# Altium footprint library Parts.PcbLib: 53 footprints (part 3 of 4)
Each footprint in its own frame and in the unit in brackets; x right, y up, seen from the top. Pads: shape width x height; smd on the part's side, far side on the other; paste and mask are expansions set on the pad; w line width, h text height; cw(c..) or ccw(c..) is an arc to the next point about the centre after c.
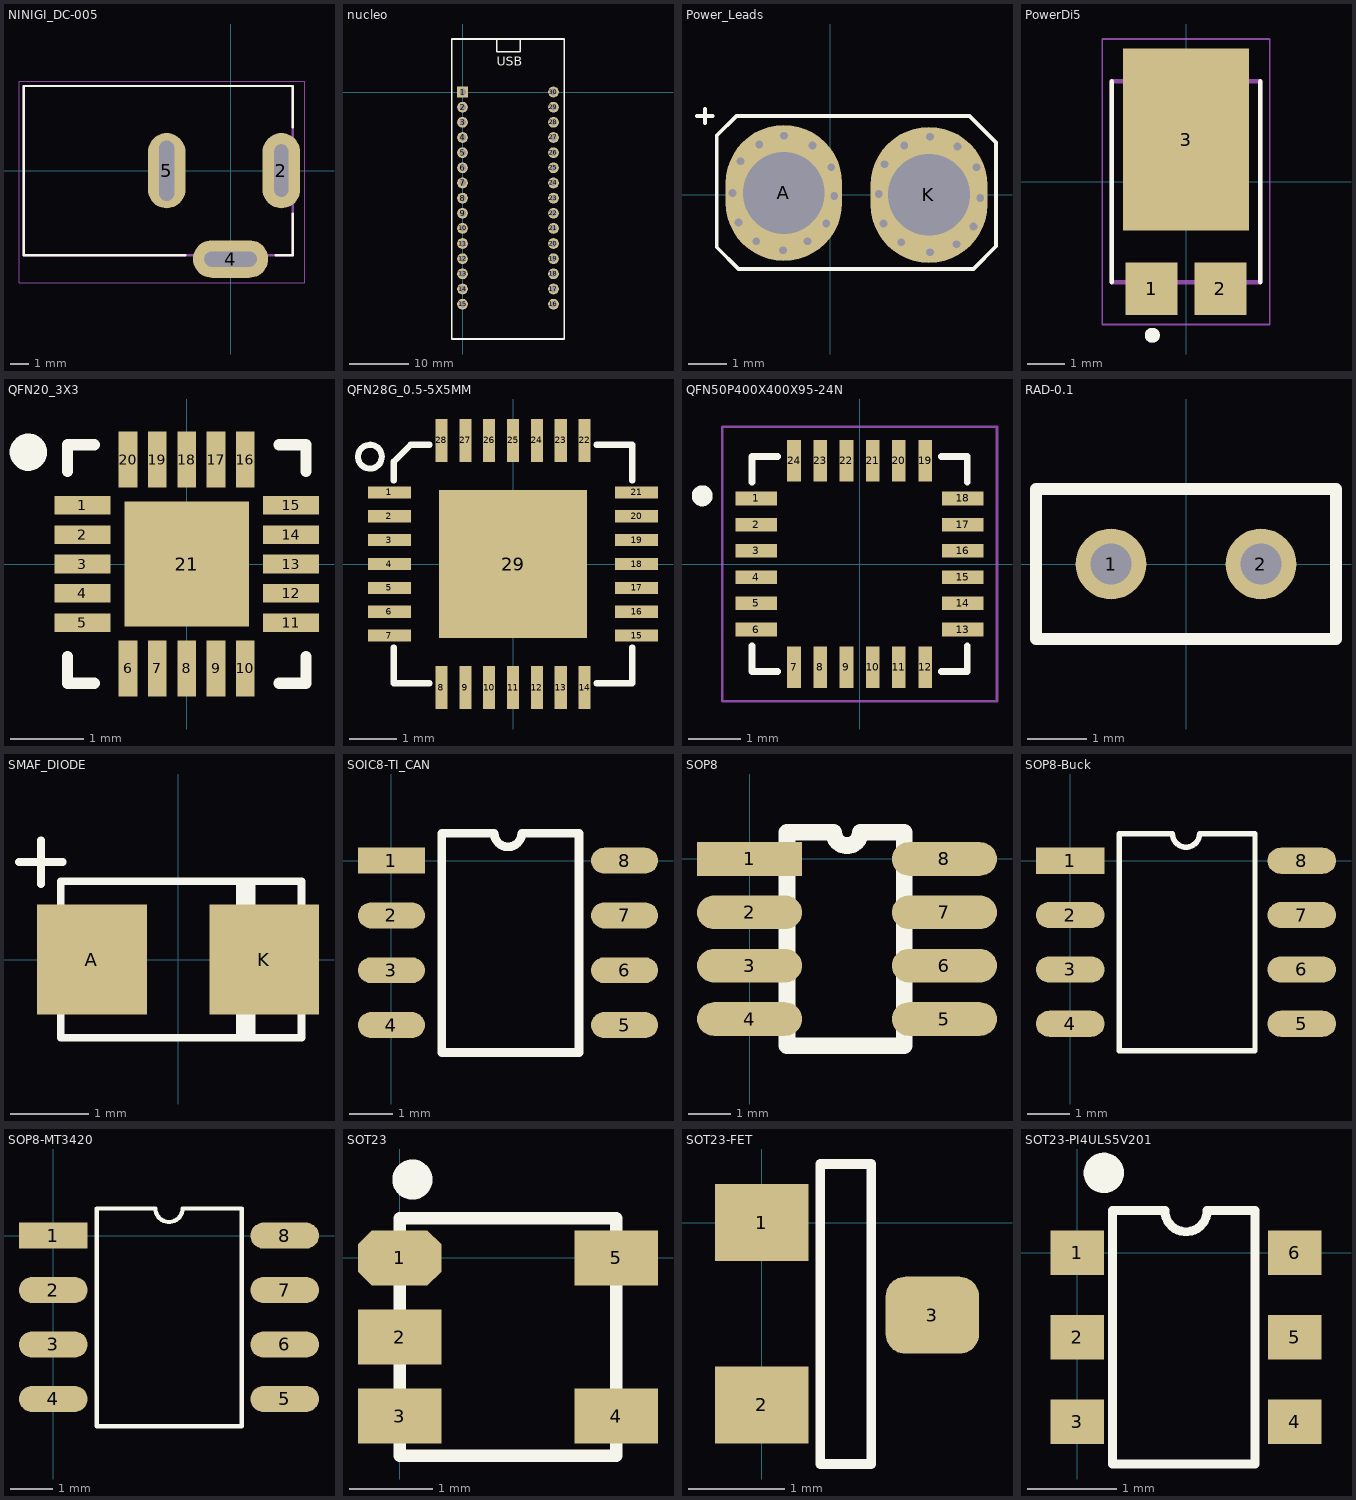
[diagram p2: the footprints below, top view; thin cyan lines are the x and y axes]

## NINIGI_DC-005 [mm]
pads (3):
  oval 2x4 hole 0.75 slot 2.794 at 90 deg: 2(2.7,0)
  oval 4x2 hole 0.8 slot 2.794 at 0 deg: 4(0,-4.7)
  oval 2x4 hole 0.801 slot 3.2 at 90 deg: 5(-3.4,0)
Top Overlay:
  lines w0.127: -2.4,-4.5 -11,-4.5 -11,4.5 3.3,4.5 3.3,2.3 ; 2.4,-4.5 3.3,-4.5 3.3,-2.3
Mechanical 1:
  lines w0: -3.775,-1.5 -3.775,1.5 -3.025,1.5 -3.025,-1.5 -3.775,-1.5 ; -1.25,-5.1 -1.25,-4.3 1.25,-4.3 1.25,-5.1 -1.25,-5.1 ; 2.325,-1.5 2.325,1.5 3.075,1.5 3.075,-1.5 2.325,-1.5
Mechanical 4:
  lines w0.127: -11,-4.5 -11,4.5 ; -11,-4.5 3.3,-4.5 ; -11,-4.5 -11,4.5 ; -11,-4.5 3.3,-4.5 ; -11,4.5 3.3,4.5 ; -11,4.5 3.3,4.5 ; 3.3,-4.5 3.3,4.5 ; 3.3,-4.5 3.3,4.5
Mechanical 16:
  lines w0.05: -11.25,-5.95 -11.25,4.75 3.95,4.75 3.95,-5.95 -11.25,-5.95

## nucleo [mm]
pads (30):
  rect 1.8x1.8 hole 1.1: 1(0,0)
  round 1.8 hole 1.1: 2(0,-2.54) 3(0,-5.08) 4(0,-7.62) 5(0,-10.16) 6(0,-12.7) 7(0,-15.24) 8(0,-17.78) 9(0,-20.32) 10(0,-22.86) 11(0,-25.4) 12(0,-27.94) 13(0,-30.48) 14(0,-33.02) 15(0,-35.56) 16(15.24,-35.56) 17(15.24,-33.02) 18(15.24,-30.48) 19(15.24,-27.94) 20(15.24,-25.4) 21(15.24,-22.86) 22(15.24,-20.32) 23(15.24,-17.78) 24(15.24,-15.24) 25(15.24,-12.7) 26(15.24,-10.16) 27(15.24,-7.62) 28(15.24,-5.08) 29(15.24,-2.54) 30(15.24,0)
Top Overlay:
  lines w0.254: 5.715,8.89 5.715,6.731 9.652,6.731 9.652,8.89 ; -1.778,-41.402 -1.778,8.89 8.255,8.89 17.018,8.89 17.018,-41.402 -1.778,-41.402
  text "USB" at 5.715,4.445 h1.52

## Power_Leads [mm]
pads (2):
  oval 3x3.5 hole 2.1: A(-1.194,0.051) K(2.54,0)
via 1.372,-0.737 diameter 0.276 hole 0.2
via 1.829,-1.219 diameter 0.276 hole 0.2
via 2.565,-1.473 diameter 0.276 hole 0.2
via 3.251,-1.27 diameter 0.276 hole 0.2
via 3.683,-0.813 diameter 0.276 hole 0.2
via 3.861,-0.076 diameter 0.276 hole 0.2
via 3.759,0.711 diameter 0.276 hole 0.2
via 3.277,1.245 diameter 0.276 hole 0.2
via 2.565,1.499 diameter 0.276 hole 0.2
via 1.905,1.27 diameter 0.276 hole 0.2
via 1.397,0.787 diameter 0.276 hole 0.2
via 1.245,0.025 diameter 0.276 hole 0.2
via -1.905,-1.194 diameter 0.276 hole 0.2
via -2.362,-0.711 diameter 0.276 hole 0.2
via -1.219,-1.422 diameter 0.276 hole 0.2
via 0.102,-0.025 diameter 0.276 hole 0.2
via 0.025,0.711 diameter 0.276 hole 0.2
via -0.457,1.27 diameter 0.276 hole 0.2
via -1.829,1.295 diameter 0.276 hole 0.2
via -1.194,1.524 diameter 0.276 hole 0.2
via -2.311,0.864 diameter 0.276 hole 0.2
via -2.515,0.051 diameter 0.276 hole 0.2
via -0.102,-0.737 diameter 0.276 hole 0.2
via -0.584,-1.194 diameter 0.276 hole 0.2
Top Overlay:
  lines w0.1: -3.429,2.032 -3.023,2.032 ; -3.226,1.854 -3.226,2.21 ; -2.921,-1.346 -2.921,1.524 -2.413,2.032 3.581,2.032 4.267,1.346 4.267,-0.408 4.267,-1.321 3.683,-1.905 -2.362,-1.905 -2.921,-1.346

## PowerDi5 [mm]
pads (3):
  rect 1.39x1.4 smd: 1(-0.92,-2.856) 2(0.92,-2.856)
  rect 3.36x4.86 smd: 3(0,1.126)
Top Overlay:
  circle w0.2: c-0.9,-4.1 r0.1
  lines w0.127: -1.985,-2.685 -1.985,2.685 ; 1.985,-2.685 1.985,2.685
Top Paste:
  region: -1.06,2.666 1.06,2.666 1.06,-0.414 -1.06,-0.414
Mechanical 4:
  circle w0.2: c-0.9,-4.1 r0.1
  circle w0.2: c-0.9,-4.1 r0.1
  lines w0.127: -1.985,-2.685 -1.985,2.685 ; -1.985,-2.685 1.985,-2.685 ; -1.985,-2.685 -1.985,2.685 ; -1.985,-2.685 1.985,-2.685 ; -1.985,2.685 1.985,2.685 ; -1.985,2.685 1.985,2.685 ; 1.985,-2.685 1.985,2.685 ; 1.985,-2.685 1.985,2.685
Mechanical 16:
  lines w0.05: -2.235,-3.81 2.235,-3.81 2.235,3.81 -2.235,3.81 -2.235,-3.81

## QFN20_3X3 [mil]
pads (21):
  rect 30x10 smd mask+2: 1(-56,31.5) 2(-56,15.75) 3(-56,0) 4(-56,-15.75) 5(-56,-31.5) 11(56,-31.5) 12(56,-15.75) 13(56,0) 14(56,15.75) 15(56,31.5)
  rect 10x30 smd mask+2: 6(-31.5,-56) 7(-15.75,-56) 8(0,-56) 9(15.75,-56) 10(31.5,-56) 16(31.5,56) 17(15.75,56) 18(0,56) 19(-15.75,56) 20(-31.5,56)
  rect 67x67 smd mask+2: 21(0,0)
Top Overlay:
  circle w10: c-85,60 r5
  lines w6: -64,-49.6 -64,-64 -49.6,-64 ; -64,49.6 -64,64 -49.6,64 ; 49.6,-64 64,-64 64,-49.6 ; 49.6,64 64,64 64,49.6

## QFN28G_0.5-5X5MM [mm]
pads (29):
  rect 0.9x0.254 smd: 1(-2.59,1.5) 2(-2.59,1) 3(-2.59,0.5) 4(-2.59,0) 5(-2.59,-0.5) 6(-2.59,-1) 7(-2.59,-1.5) 15(2.59,-1.5) 16(2.59,-1) 17(2.59,-0.5) 18(2.59,0) 19(2.59,0.5) 20(2.59,1) 21(2.59,1.5)
  rect 0.254x0.9 smd: 8(-1.5,-2.59) 9(-1,-2.59) 10(-0.5,-2.59) 11(0,-2.59) 12(0.5,-2.59) 13(1,-2.59) 14(1.5,-2.59) 22(1.5,2.59) 23(1,2.59) 24(0.5,2.59) 25(0,2.59) 26(-0.5,2.59) 27(-1,2.59) 28(-1.5,2.59)
  rect 3.1x3.1 smd paste-3: 29(0,0)
Top Overlay:
  circle w0.127: c-3,2.25 r0.25
  lines w0.127: -2.5,-1.75 -2.5,-2.5 -1.75,-2.5 ; -2.5,1.75 -2.5,2.146 -2.146,2.5 -1.75,2.5 ; 1.75,-2.5 2.5,-2.5 2.5,-1.75 ; 1.75,2.5 2.5,2.5 2.5,1.75
Top Paste:
  region: -0.25,0.25 -1.502,0.25 -1.502,1.5 -0.25,1.5
  region: 1.5,0.25 0.25,0.25 0.25,1.5 1.5,1.5
  region: -0.25,-1.503 -1.503,-1.503 -1.503,-0.25 -0.25,-0.25
  region: 1.5,-1.503 0.25,-1.503 0.25,-0.25 1.5,-0.25

## QFN50P400X400X95-24N [mm]
pads (24):
  rect 0.79x0.26 smd mask+0.089: 1(-1.97,1.25) 2(-1.97,0.75) 3(-1.97,0.25) 4(-1.97,-0.25) 5(-1.97,-0.75) 6(-1.97,-1.25) 13(1.97,-1.25) 14(1.97,-0.75) 15(1.97,-0.25) 16(1.97,0.25) 17(1.97,0.75) 18(1.97,1.25)
  rect 0.26x0.79 smd mask+0.089: 7(-1.25,-1.97) 8(-0.75,-1.97) 9(-0.25,-1.97) 10(0.25,-1.97) 11(0.75,-1.97) 12(1.25,-1.97) 19(1.25,1.97) 20(0.75,1.97) 21(0.25,1.97) 22(-0.25,1.97) 23(-0.75,1.97) 24(-1.25,1.97)
Top Overlay:
  circle w0.2: c-3,1.3 r0.1
  lines w0.127: -2.05,-1.56 -2.05,-2.05 -1.56,-2.05 ; -2.05,1.56 -2.05,2.05 -1.56,2.05 ; 1.56,-2.05 2.05,-2.05 2.05,-1.56 ; 1.56,2.05 2.05,2.05 2.05,1.56
Mechanical 15:
  lines w0.05: -2.62,-2.62 -2.62,2.62 2.62,2.62 2.62,-2.62 -2.62,-2.62

## RAD-0.1 [mm] "Radial Cap, Thru-Hole; 2 Leads; 0.1 in Pin Spacing"
pads (2):
  round 1.2 hole 0.7: 1(-1.27,0) 2(1.27,0)
Top Overlay:
  lines w0.2: -2.54,-1.27 -2.54,1.27 2.54,1.27 2.54,-1.27 -2.54,-1.27

## SMAF_DIODE [mm]
pads (2):
  rect 1.4x1.4 smd: A(-1.1,0) K(1.1,0)
Top Overlay:
  lines w0.1: -2.032,1.245 -1.473,1.245 ; -1.753,0.965 -1.753,1.524 ; 0.787,-0.991 0.787,0.975 ; 0.864,-0.991 0.864,0.975 ; 0.94,-0.965 0.94,1 ; -1.499,-1 1.575,-1 1.575,1 -1.499,1 -1.499,0.601 -1.499,-1

## SOIC8-TI_CAN [mm]
pads (8):
  rect 1.55x0.6 smd: 1(0,0)
  oval 1.55x0.6 smd: 2(0,-1.27) 3(0,-2.54) 4(0,-3.81) 5(5.4,-3.81) 6(5.4,-2.54) 7(5.4,-1.27) 8(5.4,0)
Top Overlay:
  lines w0.2: 1.168,-4.445 4.343,-4.445 4.343,0.635 3.017,0.635 cw(c2.7,0.635) 2.382,0.635 1.168,0.635 1.168,-4.445

## SOP8 [mm]
pads (8):
  rect 2.5x0.8 smd: 1(0,0)
  oval 2.5x0.8 smd: 2(0,-1.27) 3(0,-2.54) 4(0,-3.81) 5(4.64,-3.81) 6(4.64,-2.54) 7(4.64,-1.27) 8(4.64,0)
Top Overlay:
  lines w0.4: 0.889,-4.445 3.683,-4.445 3.683,0.635 2.638,0.635 cw(c2.32,0.635) 2.003,0.635 0.889,0.635 0.889,-4.445

## SOP8-Buck [mil]
pads (8):
  rect 63x24 smd: 1(0,0)
  oval 63x24 smd: 2(0,-50) 3(0,-100) 4(0,-150) 5(213,-150) 6(213,-100) 7(213,-50) 8(213,0)
Top Overlay:
  lines w5: 45,-175 45,25 94,25 ccw(c106.5,25) 119,25 170,25 170,-175 45,-175

## SOP8-MT3420 [mm]
pads (8):
  rect 1.6x0.61 smd: 1(0,0)
  oval 1.6x0.61 smd: 2(0,-1.27) 3(0,-2.54) 4(0,-3.81) 5(5.4,-3.81) 6(5.4,-2.54) 7(5.4,-1.27) 8(5.4,0)
Top Overlay:
  lines w0.1: 1.016,-4.445 1.016,0.635 2.382,0.635 ccw(c2.7,0.635) 3.017,0.635 4.394,0.635 4.394,-4.445 1.016,-4.445

## SOT23 [mm]
pads (5):
  oct 1x0.66 smd: 1(0,0)
  rect 1x0.66 smd: 2(0,-0.95) 3(0,-1.9) 4(2.6,-1.9) 5(2.6,0)
Top Overlay:
  circle w0.254: c0.152,0.94 r0.114
  lines w0.15: 0,-2.375 0,0.475 2.6,0.475 2.6,-2.375 0,-2.375

## SOT23-FET [mil]
pads (3):
  rect 38.27x31.57 smd: 1(0,0) 2(0,-74.8)
  rrect50% 38.27x31.57 smd: 3(70,-38)
Top Overlay:
  lines w3.94: 24,-99 45,-99 45,24 24,24 24,-99

## SOT23-PI4ULS5V201 [mm]
pads (6):
  rect 0.6x0.5 smd: 1(0,0) 2(0,-0.95) 3(0,-1.9) 4(2.45,-1.9) 5(2.45,-0.95) 6(2.45,0)
Top Overlay:
  circle w0.254: c0.3,0.9 r0.1
  lines w0.1: 0.4,-2.375 2,-2.375 2,0.475 1.462,0.475 cw(c1.225,0.475) 0.987,0.475 0.4,0.475 0.4,-2.375